# Altium schematic symbol library Resistor_1206.SchLib: 1 symbol
Pins are listed as number, name and electrical type; pins without a type are passive.

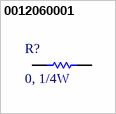
[diagram p0: symbol 0012060001]

## 0012060001
designator R?, comment 0, 1/4W
RES, 0 Ohm, size 1206
pins: 1, 2